# EAGLE library part MOLEX_SL_28 (library molex-sl-connectors_jw)
Molex SL-Series PCB Header, 28-Pos, 0.1" (2.54mm) Centers
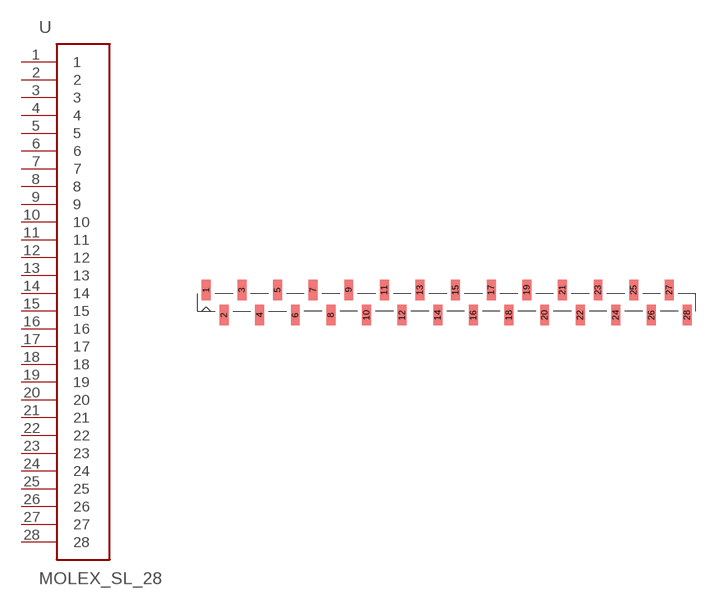
[diagram p22: symbol with the pads of SL_87898_28; footprint SL_87898_28]

Designator prefix -

## MOLEX_SL_28-87898  [SL_87898_28]
1  1
2  2
3  3
4  4
5  5
6  6
7  7
8  8
9  9
10  10
11  11
12  12
13  13
14  14
15  15
16  16
17  17
18  18
19  19
20  20
21  21
22  22
23  23
24  24
25  25
26  26
27  27
28  28

## Footprint SL_87898_28 (pad centres in mm)
SMD Vertical Header (no latch or pegs) Package also includes Pick-N-Place Cap Tube packaging w/o Pick-N-Place Cap: 87898-2821 87898-2822 87898-2824 87898-2825 87898-2826 Tube packaging w/ Pick-N-Place Cap: 87898-2831 87898-2832 87898-2834 87898-2835 87898-2836
smd 1.27 x 2.946: 1 -34.29,1.803; 2 -31.75,-1.803; 3 -29.21,1.803; 4 -26.67,-1.803; 5 -24.13,1.803; 6 -21.59,-1.803; 7 -19.05,1.803; 8 -16.51,-1.803; 9 -13.97,1.803; 10 -11.43,-1.803; 11 -8.89,1.803; 12 -6.35,-1.803; 13 -3.81,1.803; 14 -1.27,-1.803; 15 1.27,1.803; 16 3.81,-1.803; 17 6.35,1.803; 18 8.89,-1.803; 19 11.43,1.803; 20 13.97,-1.803; 21 16.51,1.803; 22 19.05,-1.803; 23 21.59,1.803; 24 24.13,-1.803; 25 26.67,1.803; 26 29.21,-1.803; 27 31.75,1.803; 28 34.29,-1.803